# EAGLE library part HEADER_11X1 (library LIBRARY_embedded_software_systems)
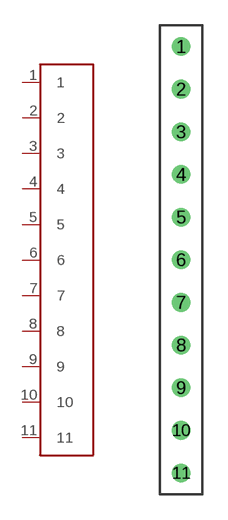
[diagram p2: symbol with the pads of HEADER_11X1; footprint HEADER_11X1]

Designator prefix -

## HEADER_11X1  [HEADER_11X1]
1  1
2  2
3  3
4  4
5  5
6  6
7  7
8  8
9  9
10  10
11  11

## Footprint HEADER_11X1 (pad centres in mm)
1x11 Male Header
drill 0.6: 1 0,12.7; 2 0,10.16; 3 0,7.62; 4 0,5.08; 5 0,2.54; 6 0,0; 7 0,-2.54; 8 0,-5.08; 9 0,-7.62; 10 0,-10.16; 11 0,-12.7